# EAGLE library part CAY16-102J8LF (library Brundage Buisness Card)
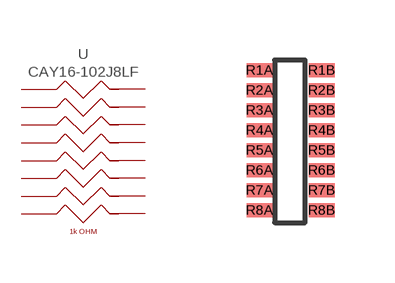
[diagram p4: symbol with the pads of CAY16-102J8LF; footprint CAY16-102J8LF]

Designator prefix -

## CAY16-102J8LF  [CAY16-102J8LF]
R1A  R1A
R1B  R1B
R2A  R2A
R2B  R2B
R3A  R3A
R3B  R3B
R4A  R4A
R4B  R4B
R5A  R5A
R5B  R5B
R6A  R6A
R6B  R6B
R7A  R7A
R7B  R7B
R8A  R8A
R8B  R8B

## Footprint CAY16-102J8LF (pad centres in mm)
smd 0.65 x 0.35: R1A 0,0; R1B 1.55,0; R2A 0,-0.5; R2B 1.55,-0.5; R3A 0,-1; R3B 1.55,-1; R4A 0,-1.5; R4B 1.55,-1.5; R5A 0,-2; R5B 1.55,-2; R6A 0,-2.5; R6B 1.55,-2.5; R7A 0,-3; R7B 1.55,-3; R8A 0,-3.5; R8B 1.55,-3.5